# Altium schematic symbol library LED_RGB-WS2812B.SchLib: 1 symbol
Pins are listed as number, name and electrical type; pins without a type are passive.

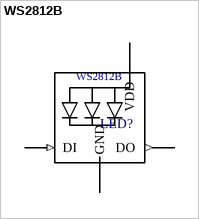
[diagram p0: symbol WS2812B]

## WS2812B
designator LED?  (value not drawn)
/ Intelligent control LED integrated light source /; MF: Worldsemi; MP: WS2812B; SnapEDA_Link: https://www.snapeda.com/parts/WS2812B/Worldsemi/view-part/?ref=snap; Package: None; Check_prices: https://www.snapeda.com/parts/WS2812B/Worldsemi/view-part/?ref=eda; Value: *
footprint *WS2812B_WS2812B(Primary)
pins: 1-VDD VDD (power), 2-DOUT DO (out), 3-GND GND (power), 4-DIN DI (in)